# EAGLE library part TC2050-IDC (library angrypig7-Connectors-Programming)
Tag-Connect In Circuit Programming & Debug Cable 10 Pin Link <https://www.tag-connect.com/product/tc2050-idc-tag-connect-2050-idc>
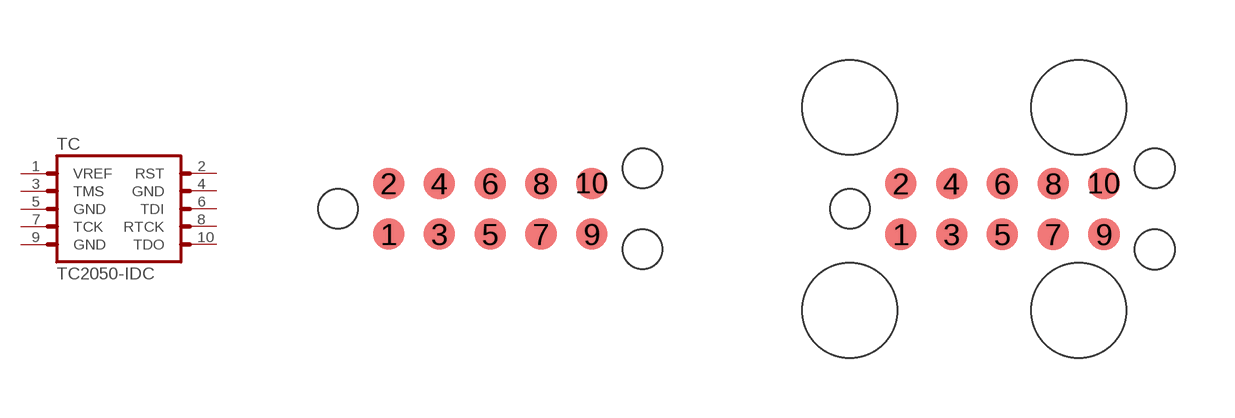
[diagram p2: symbol with the pads of TC2050-IDC-NL; footprints TC2050-IDC-NL, TC2050-IDC]

Designator prefix TC

## TC2050-IDC-NL  [TC2050-IDC-NL]
1  VREF  pas
2  RST  pas
3  TMS  pas
4  GND  pas
5  GND  pas
6  TDI  pas
7  TCK  pas
8  RTCK  pas
9  GND  pas
10  TDO  pas

## TC2050-IDC  [TC2050-IDC]
Pads as for TC2050-IDC-NL

## Footprint TC2050-IDC-NL (pad centres in mm)
smd 0.787 x 0.787: 1 -2.54,-0.635; 2 -2.54,0.635; 3 -1.27,-0.635; 4 -1.27,0.635; 5 0,-0.635; 6 0,0.635; 7 1.27,-0.635; 8 1.27,0.635; 9 2.54,-0.635; 10 2.54,0.635
hole 0.991 at -3.81,0
hole 0.991 at 3.81,1.016
hole 0.991 at 3.81,-1.016

## Footprint TC2050-IDC (pad centres in mm)
smd 0.787 x 0.787: 1 -2.54,-0.635; 2 -2.54,0.635; 3 -1.27,-0.635; 4 -1.27,0.635; 5 0,-0.635; 6 0,0.635; 7 1.27,-0.635; 8 1.27,0.635; 9 2.54,-0.635; 10 2.54,0.635
hole 0.991 at -3.81,0
hole 0.991 at 3.81,1.016
hole 0.991 at 3.81,-1.016
hole 2.375 at -3.81,2.54
hole 2.375 at -3.81,-2.54
hole 2.375 at 1.905,2.54
hole 2.375 at 1.905,-2.54